# EAGLE library part PND_12POS_CONN (library UBCSolar)
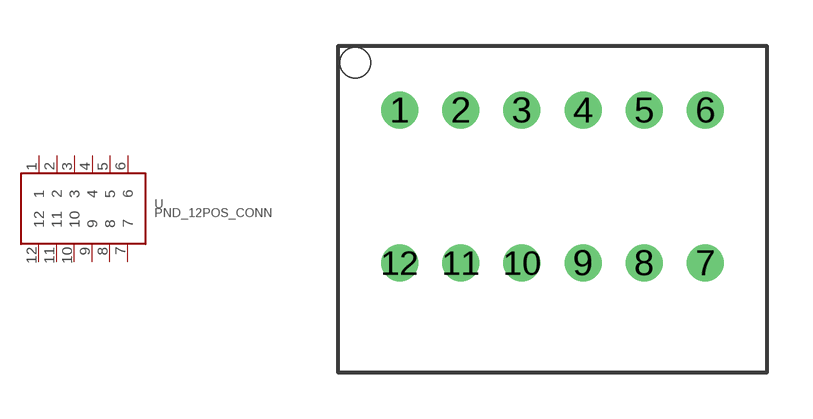
[diagram p13: symbol with the pads of PND_12POS_CONN; footprint PND_12POS_CONN]

Designator prefix -

## PND_12POS_CONN  [PND_12POS_CONN]
1  1
2  2
3  3
4  4
5  5
6  6
7  7
8  8
9  9
10  10
11  11
12  12

## Footprint PND_12POS_CONN (pad centres in mm)
B12B-PNDZS-1(T)(LF)(SN) 12pos 3A vertical connector https://www.digikey.ca/product-detail/en/jst-sales-america-inc/B12B-PNDZS-1-T-LF-SN/455-2324-ND/1788540
drill 0.7: 1 -5,2.5; 2 -3,2.5; 3 -1,2.5; 4 1,2.5; 5 3,2.5; 6 5,2.5; 7 5,-2.5; 8 3,-2.5; 9 1,-2.5; 10 -1,-2.5; 11 -3,-2.5; 12 -5,-2.5
hole 1 at -6.45,4.05